# EAGLE library part PCM2704C (library TI)
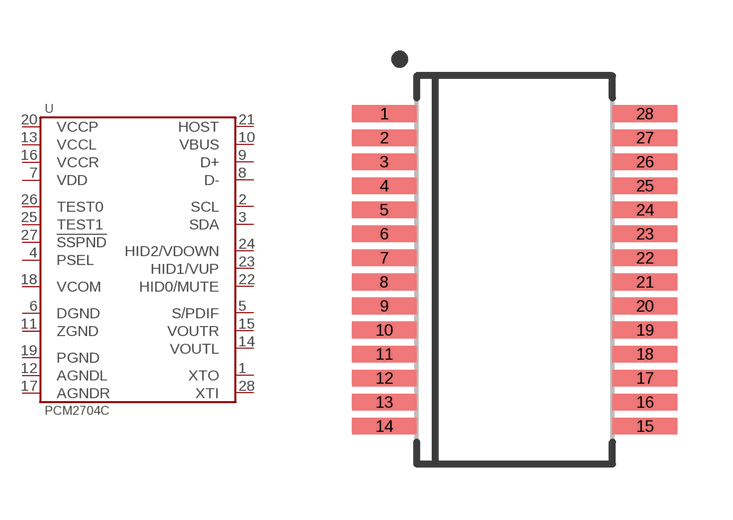
[diagram p25: symbol with the pads of SSOP-28; footprint SSOP-28]

Designator prefix U

## PCM2704CDBR  [SSOP-28]
1  XTO
2  SCL
3  SDA
4  PSEL
5  S/PDIF
6  DGND
7  VDD
8  D-
9  D+
10  VBUS
11  ZGND
12  AGNDL
13  VCCL
14  VOUTL
15  VOUTR
16  VCCR
17  AGNDR
18  VCOM
19  PGND
20  VCCP
21  HOST
22  HID0/MUTE
23  HID1/VUP
24  HID2/VDOWN
25  TEST1
26  TEST0
27  !SSPND
28  XTI

## Footprint SSOP-28 (pad centres in mm)
smd 1.75 x 0.45: 1 -3.525,4.225; 2 -3.525,3.575; 3 -3.525,2.925; 4 -3.525,2.275; 5 -3.525,1.625; 6 -3.525,0.975; 7 -3.525,0.325; 8 -3.525,-0.325; 9 -3.525,-0.975; 10 -3.525,-1.625; 11 -3.525,-2.275; 12 -3.525,-2.925; 13 -3.525,-3.575; 14 -3.525,-4.225; 15 3.525,-4.225; 16 3.525,-3.575; 17 3.525,-2.925; 18 3.525,-2.275; 19 3.525,-1.625; 20 3.525,-0.975; 21 3.525,-0.325; 22 3.525,0.325; 23 3.525,0.975; 24 3.525,1.625; 25 3.525,2.275; 26 3.525,2.925; 27 3.525,3.575; 28 3.525,4.225